# EAGLE library part G65SC02P (library 65XXX)
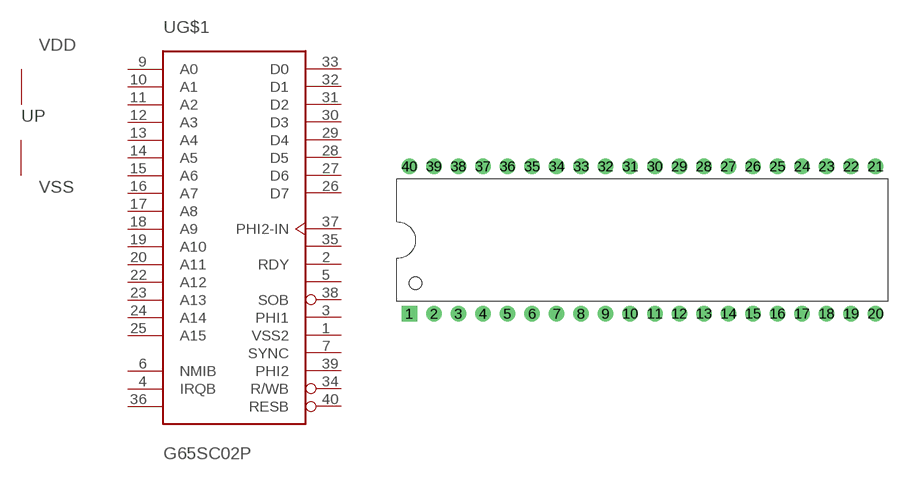
[diagram p4: symbol with the pads of DIP-40; footprint DIP-40]

Designator prefix U; gates G$1=65C02-L P=P-CMOS

## G65SC02P  [DIP-40]
1  G$1:VSS2  pwr
2  G$1:RDY
3  G$1:PHI1  out
4  G$1:IRQB  in
5  G$1:NC$3  nc
6  G$1:NMIB  in
7  G$1:SYNC  out
8  P:VDD  pwr
9  G$1:A0
10  G$1:A1
11  G$1:A2
12  G$1:A3
13  G$1:A4
14  G$1:A5
15  G$1:A6
16  G$1:A7
17  G$1:A8
18  G$1:A9
19  G$1:A10
20  G$1:A11
21  P:VSS  pwr
22  G$1:A12
23  G$1:A13
24  G$1:A14
25  G$1:A15
26  G$1:D7
27  G$1:D6
28  G$1:D5
29  G$1:D4
30  G$1:D3
31  G$1:D2
32  G$1:D1
33  G$1:D0
34  G$1:R/WB  out
35  G$1:NC$1  nc
36  G$1:NC$2  nc
37  G$1:PHI2-IN  in
38  G$1:SOB  in
39  G$1:PHI2  out
40  G$1:RESB  in

## Footprint DIP-40 (pad centres in mm)
drill 0.889 pad 1.6 square: 1 -22.86,-7.62
drill 0.889 pad 1.6: 2 -20.32,-7.62; 3 -17.78,-7.62; 4 -15.24,-7.62; 5 -12.7,-7.62; 6 -10.16,-7.62; 7 -7.62,-7.62; 8 -5.08,-7.62; 9 -2.54,-7.62; 10 0,-7.62; 11 2.54,-7.62; 12 5.08,-7.62; 13 7.62,-7.62; 14 10.16,-7.62; 15 12.7,-7.62; 16 15.24,-7.62; 17 17.78,-7.62; 18 20.32,-7.62; 19 22.86,-7.62; 20 25.4,-7.62; 21 25.4,7.62; 22 22.86,7.62; 23 20.32,7.62; 24 17.78,7.62; 25 15.24,7.62; 26 12.7,7.62; 27 10.16,7.62; 28 7.62,7.62; 29 5.08,7.62; 30 2.54,7.62; 31 0,7.62; 32 -2.54,7.62; 33 -5.08,7.62; 34 -7.62,7.62; 35 -10.16,7.62; 36 -12.7,7.62; 37 -15.24,7.62; 38 -17.78,7.62; 39 -20.32,7.62; 40 -22.86,7.62